# Altium integrated library Misc_Library.IntLib: 1 symbol
Pins are listed as number, name and electrical type; pins without a type are passive.

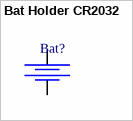
[diagram p0: symbol Bat Holder CR2032]

## Bat Holder CR2032
designator Bat?  (value not drawn)
Bat Holder CR2032 SMD; Note: Bat Holder CR2032
footprint CR2032_HOLDER (BK-912 @ tme)
pins: 1, 2